# Altium schematic symbol library Pressure_sensor.SchLib: 2 symbols
Pins are listed as number, name and electrical type; pins without a type are passive.

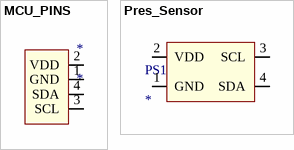
[diagram p0: symbols MCU_PINS to Pres_Sensor]

## MCU_PINS
designator *
footprint PIN_ROW
pins: 1 GND, 2 VDD, 3 SCL, 4 SDA

## Pres_Sensor
designator PS1
footprint Pressure_Footprint
pins: 1 GND, 2 VDD, 3 SCL, 4 SDA